# Altium schematic symbol library SW SLIDE.Schlib: 1 symbol
Pins are listed as number, name and electrical type; pins without a type are passive.

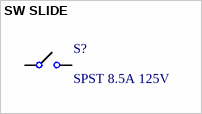
[diagram p0: symbol SW SLIDE]

## SW SLIDE
designator S?, comment SPST 8.5A 125V
SWITCH SLIDE SPST 8.5A 125V
pins: 0, 1